# Altium schematic symbol library 418217270908.SchLib: 1 symbol
Pins are listed as number, name and electrical type; pins without a type are passive.

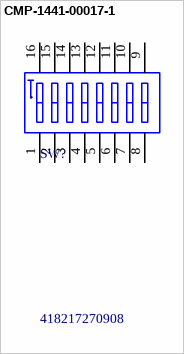
[diagram p0: symbol CMP-1441-00017-1]

## CMP-1441-00017-1
designator SW?, comment 418217270908
WS-DITU 2.54 mm right angled compact THT Dip Switch with raised actuator; Manufacturer: Wuerth Elektronik; NoPins: 16; ComponentLink2URL: http://katalog.we-online.de/em/datasheet/4182172709xx.pdf; ComponentLink2Description: Datasheet; PartNumber: 418217270908; PackageReference: 418217270908; ComponentLink1URL: http://www.we-online.com; ComponentLink1Description: Manufacturer URL
footprint 418217270908 (08p, 2.54mm Pitch, Right Angled, Box Type, THT, raised Actuator, red, without Tape, Tube)
pins: 1, 2, 3, 4, 5, 6, 7, 8, 9, 10, 11, 12, 13, 14, 15, 16